# Altium footprint library Pulser.PcbLib: 9 footprints
Each footprint in its own frame and in the unit in brackets; x right, y up, seen from the top. Pads: shape width x height; smd on the part's side, far side on the other; paste and mask are expansions set on the pad; w line width, h text height; cw(c..) or ccw(c..) is an arc to the next point about the centre after c.
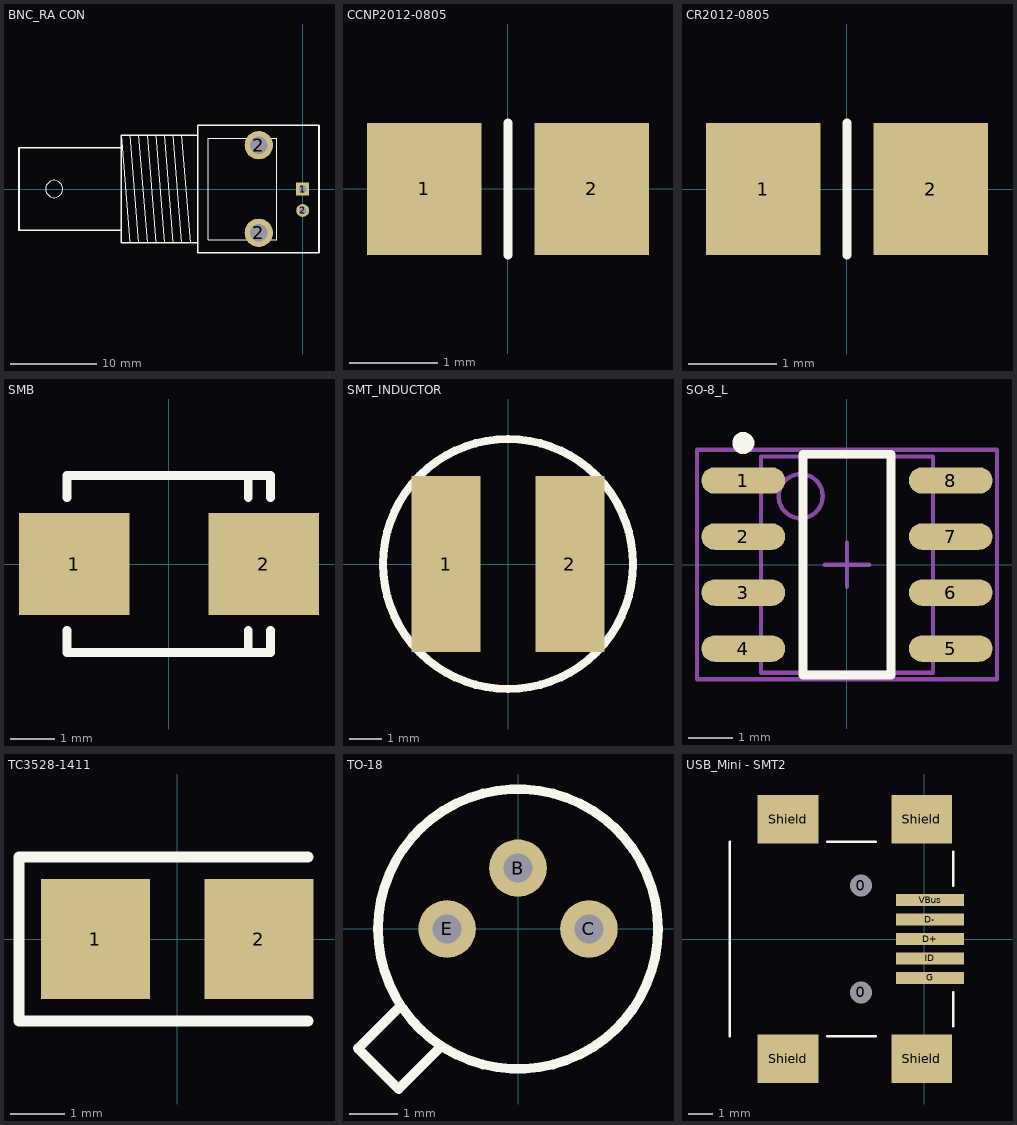
[diagram p0: the footprints below, top view; thin cyan lines are the x and y axes]

## BNC_RA CON [mm] "Connector; BNC Elbow"
pads (4):
  rect 1.5x1.5 hole 0.9: 1(0,0)
  round 3.3 hole 2: 2(-5.1,-5.1) 2(-5.1,5.1)
  round 1.5 hole 0.9: 2(0,-2.5)
Top Overlay:
  circle w0.025: c-28.9,0 r1
  lines w0.025: -20.1,-6.25 -21.1,6.25 ; -20.1,6.25 -19.1,-6.25 ; -19.1,6.25 -18.1,-6.25 ; -18.1,6.25 -17.1,-6.25 ; -17.1,6.25 -16.1,-6.25 ; -16.1,6.25 -15.1,-6.25 ; -15.1,6.25 -14.1,-6.25 ; -14.1,6.25 -13.1,-6.25 ; -21.1,-4.8 -21.1,-6.25 -12.2,-6.25 ; -21.1,-4.8 -21.1,4.8 ; -21.1,-4.8 -33,-4.8 -33,4.8 -21.1,4.8 ; -21.1,4.8 -21.1,6.25 ; -21.1,6.25 -12.2,6.25 ; -12.2,-6.25 -12.2,-7.4 1.9,-7.4 1.9,7.4 -12.2,7.4 -12.2,6.25 ; -12.2,-6.25 -12.2,6.25 ; -11,-5.9 -11,5.9 -3,5.9 -3,-5.9 -11,-5.9
  lines w0.2: -21.1,-4.8 -21.1,-6.25 -12.2,-6.25 ; -21.1,-4.8 -33,-4.8 -33,4.8 -21.1,4.8 ; -21.1,-4.8 -21.1,4.8 ; -21.1,4.8 -21.1,6.25 -12.2,6.25 ; -12.2,-6.25 -12.2,-7.4 1.9,-7.4 1.9,7.4 -12.2,7.4 -12.2,6.25 ; -12.2,-6.25 -12.2,6.25

## CCNP2012-0805 [mm]
height 1.8
pads (2):
  rect 1.3x1.5 smd: 1(-0.95,0) 2(0.95,0)
Top Overlay:
  lines w0.1: 0,-0.75 0,0.75
3D body: height 0.78, standoff 0, extent -1,-0.625 1,0.625

## CR2012-0805 [mm]
height 1.8
pads (2):
  rect 1.3x1.5 smd: 1(-0.95,0) 2(0.95,0)
Top Overlay:
  lines w0.1: 0,-0.75 0,0.75
3D body: height 0.76, standoff 0, extent -1.15,-0.675 1.15,0.675

## SMB [mm] "Diode"
height 2.5
pads (2):
  rect 2.5x2.3 smd: 1(-2.14,0) 2(2.15,0)
Top Overlay:
  lines w0.2: -2.3,-1.5 -2.3,-2 2.3,-2 2.3,-1.5 ; -2.3,1.5 -2.3,2 2.3,2 2.3,1.5 ; 1.8,-2 1.8,-1.5 ; 1.8,1.5 1.8,2

## SMT_INDUCTOR [mm]
height 5
pads (2):
  rect 2.15x5.5 smd: 1(-1.93,0) 2(1.93,0)
Top Overlay:
  circle w0.254: c0,0 r3.9

## SO-8_L [mm] "8-Pin Small Outline Integrated Circuit 1.27 mm Pitch, IPC High Density"
height 1.75
pads (8):
  oval 1.9x0.6 smd: 1(-2.35,1.905) 2(-2.35,0.635) 3(-2.35,-0.635) 4(-2.35,-1.905) 5(2.35,-1.905) 6(2.35,-0.635) 7(2.35,0.635) 8(2.35,1.905)
Top Overlay:
  circle w0.25: c-2.35,2.755 r0.125
  lines w0.2: -1,-2.5 -1,2.5 1,2.5 1,-2.5 -1,-2.5
Mechanical 13:
  circle w0.1: c-1.05,1.55 r0.5
  lines w0.1: -1.95,-2.45 -1.95,2.45 1.95,2.45 1.95,-2.45 -1.95,-2.45
Mechanical 15:
  lines w0.1: -0.5,0 0.5,0 ; 0,-0.5 0,0.5 ; -3.4,-2.6 -3.4,2.6 3.4,2.6 3.4,-2.6 -3.4,-2.6
3D body: height 1.75, standoff 0, extent -1.95,-2.45 1.95,2.45

## TC3528-1411 [mm]
pads (2):
  rect 2x2.2 smd: 1(-1.5,0) 2(1.5,0)
Top Overlay:
  lines w0.2: 2.4,-1.5 -2.9,-1.5 -2.9,1.5 2.4,1.5

## TO-18 [mm] "Metal can transistor"
height 10
pads (3):
  round 1.2 hole 0.6: B(0,1.27) C(1.48,0) E(-1.48,0)
Top Overlay:
  circle w0.2: c0,0 r2.92
  lines w0.2: -2.475,-1.626 -3.338,-2.489 -2.489,-3.338 -1.626,-2.475

## USB_Mini - SMT2 [mm] "USB Mini Connector (F 1363522, Tyco/AMP 1734035-2)"
height 10.16
pads (11):
  round 0.8 hole 0.9: 0(-2.6,-2.2) 0(-2.6,2.2)
  rect 2.8x0.5 smd: D+(0.25,0) D-(0.25,0.8) G(0.25,-1.6) ID(0.25,-0.8) VBus(0.25,1.6)
  rect 2.5x2 smd: Shield(-5.6,-4.925) Shield(-5.6,4.925) Shield(-0.1,-4.925) Shield(-0.1,4.925)
Top Overlay:
  lines w0.1: -8.001,-4 -8.001,4 ; -4,-4 -2,-4 ; -4,4 -2,4 ; 1.2,-3.6 1.2,-2.2 ; 1.2,2.2 1.2,3.6